# Altium schematic symbol library AD8599ARZ.SchLib: 1 symbol
Pins are listed as number, name and electrical type; pins without a type are passive.

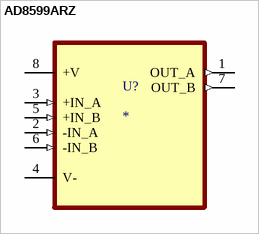
[diagram p0: symbol AD8599ARZ]

## AD8599ARZ
designator U?
Ultralow Distortion, Ultralow Noise Op Amp (Dual); MF: Analog Devices; MP: AD8599ARZ; Package: SOIC-8 Analog Devices; Price: None; Check_prices: https://www.snapeda.com/parts/AD8599ARZ/Analog+Devices/view-part/?ref=eda; Value: *; SnapEDA_Link: https://www.snapeda.com/parts/AD8599ARZ/Analog+Devices/view-part/?ref=snap; Availability: In Stock; Purchase-URL: https://pricing.snapeda.com/search?q=AD8599ARZ&ref=eda
footprint SOIC127P600X175-8N
pins: 1 OUT_A (out), 2 -IN_A (in), 3 +IN_A (in), 4 V- (power), 5 +IN_B (in), 6 -IN_B (in), 7 OUT_B (out), 8 +V (power)